# EAGLE library part TPS61500 (library ICs)
TPS61500 High-Brightness, LED Driver With Integrated 3-A, 40-V Power Switch
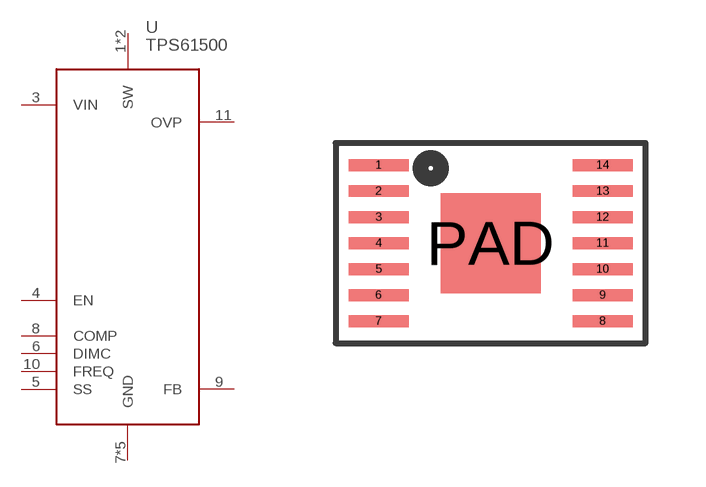
[diagram p235: symbol with the pads of HTSSOP14-4.5; footprint HTSSOP14-4.5]

Designator prefix U

## TPS61500 (DIGIKEY: 296-24014-1-ND; HEIGHT: 1; PRICE_PER: 1.95; VALUE: TPS61500)  [HTSSOP14-4.5]
1  SW
2  SW
3  VIN
4  EN
5  SS
6  DIMC
7  GND
8  COMP
9  FB
10  FREQ
11  OVP
12  GND
13  GND
14  GND
PAD  GND

## Footprint HTSSOP14-4.5 (pad centres in mm)
smd 1.5 x 0.3: 1 -2.8,1.95; 2 -2.8,1.3; 3 -2.8,0.65; 4 -2.8,0; 5 -2.8,-0.65; 6 -2.8,-1.3; 7 -2.8,-1.95; 8 2.8,-1.95; 9 2.8,-1.3; 10 2.8,-0.65; 11 2.8,0; 12 2.8,0.65; 13 2.8,1.3; 14 2.8,1.95
smd 2.5 x 2.5: PAD 0,0